# EAGLE library part RFM69HCW (library Master)
RFM69HCW: Wireless Transciever - 915MHz Datasheet: https://cdn.sparkfun.com/datasheets/Wireless/General/RFM69HCW-V1.1.pdf Product page: https://www.sparkfun.com/products/13909
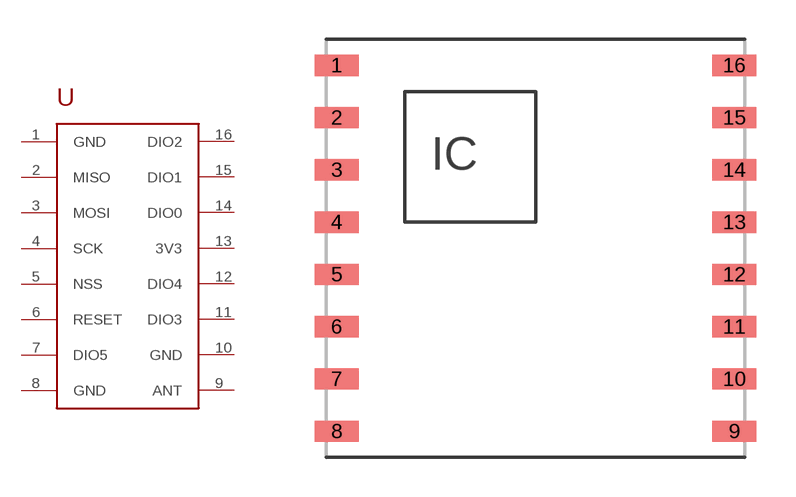
[diagram p2: symbol with the pads of RFM69; footprint RFM69]

Designator prefix U

## RFM69HCW  [RFM69]
1  GND  pwr
2  MISO
3  MOSI
4  SCK
5  NSS
6  RESET
7  DIO5
8  GND  pwr
9  ANT
10  GND  pwr
11  DIO3
12  DIO4
13  3V3  pwr
14  DIO0
15  DIO1
16  DIO2

## Footprint RFM69 (pad centres in mm)
RFM69HCW
smd 1.676 x 0.813: 1 -7.6,7; 2 -7.6,5; 3 -7.6,3; 4 -7.6,1; 5 -7.6,-1; 6 -7.6,-3; 7 -7.6,-5; 8 -7.6,-7; 9 7.6,-7; 10 7.6,-5; 11 7.6,-3; 12 7.6,-1; 13 7.6,1; 14 7.6,3; 15 7.6,5; 16 7.6,7